# EAGLE library part CM120-08CP (library on-semiconductor)
2, 4, and 8-Channel Low-Capacitance ESD Protection Array The CM1230 is a family of 2, 4 and 8 channel, very low capacitance ESD protection diode arrays in a CSP form factor. It is ideal for protecting systems with high data and clock rates or for circuits that need low capacitive loading. Each channel consists of a pair of ESD diodes that act as clamp diodes to steer ESD current pulses to either the positive or negative supply rail. A Zener diode is integrated between the positive and negative supply rails. The VCC rail is protected from ESD strikes and eliminates the need for a bypass capacitor to absorb positive ESD strikes to ground. Each channel can safely dissipate ESD strikes of±8 kV, meeting the Level 4 requirement of the IEC61000−4−2 international standard as well as ±15 kV air discharges per the IEC61000−4−2 specification. Using the MIL−STD−883 (Method 3015) specification for Human Body Model (HBM) ESD, the pins are protected for contact discharges at greater than ±15 kV. This device is well−suited for next generation wireless handsets that implement high−speed serial interface solutions for the LCD display and camera interfaces. In these designs, a tolerance above 1.5 pF cannot be tolerated when high data rates are transferred between the baseband choppiest and the LCD driver/controller Is. Higher capacitive loading normally causes the rise and fall times to slow which hampers the functionality of circuit and operation of the wireless handset. The CM1230 incorporates OptiGuard which results in improved reliability at assembly. The CM1230 is available in a space−saving, low profile Chip Scale Package with RoHS−compliant, lead−free finishing.
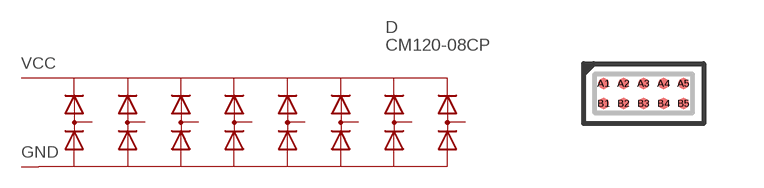
[diagram p1: symbol with the pads of WLCSP-10; footprint WLCSP-10]

Designator prefix D

## CM120-08CP  [WLCSP-10]
A1  CH1  pas
A2  CH3  pas
A3  VCC
A4  CH5  pas
A5  CH7  pas
B1  CH2  pas
B2  CH4  pas
B3  GND
B4  CH6  pas
B5  CH8  pas

## Footprint WLCSP-10 (pad centres in mm)
smd 0.275 x 0.275: A1 -1,0.25; A2 -0.5,0.25; A3 0,0.25; A4 0.5,0.25; A5 1,0.25; B1 -1,-0.25; B2 -0.5,-0.25; B3 0,-0.25; B4 0.5,-0.25; B5 1,-0.25